# Altium schematic symbol library AHT20.SchLib: 1 symbol
Pins are listed as number, name and electrical type; pins without a type are passive.

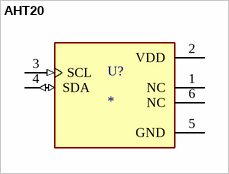
[diagram p0: symbol AHT20]

## AHT20
designator U?
Temperature and Humidity sensor; MF: {'manufacturer': u'Asair'}; MP: AHT20; Package: None; Price: None; Value: *; Availability: Unavailable
footprint PSON100P300X300X110-6N
pins: 1 NC, 2 VDD (power), 3 SCL (in), 4 SDA (io), 5 GND (power), 6 NC